# Altium footprint library LED_0402.PcbLib: 1 footprints
Each footprint in its own frame and in the unit in brackets; x right, y up, seen from the top. Pads: shape width x height; smd on the part's side, far side on the other; paste and mask are expansions set on the pad; w line width, h text height; cw(c..) or ccw(c..) is an arc to the next point about the centre after c.
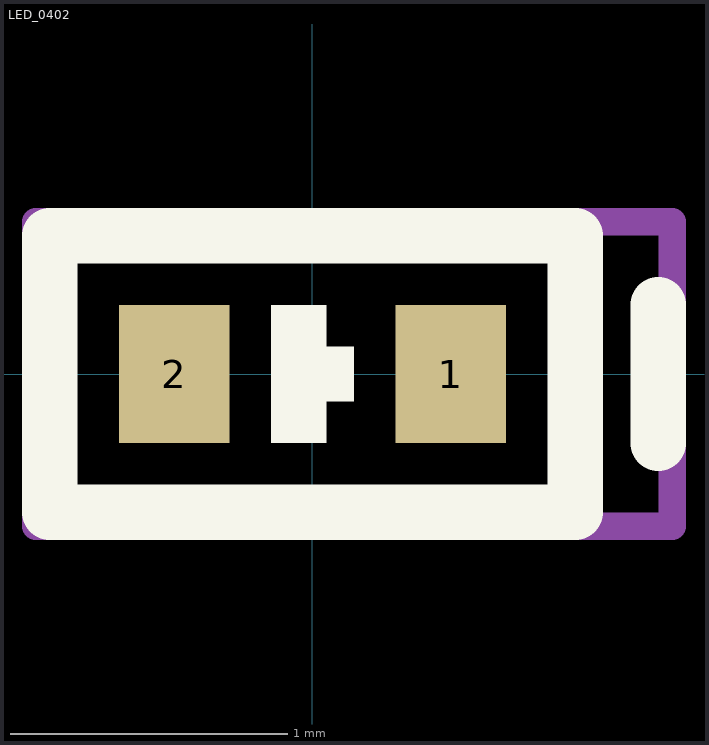
[diagram p0: the footprint, top view; thin cyan lines are the x and y axes]

## LED_0402 [mm]
pads (2):
  rect 0.4x0.5 smd: 1(0.5,0) 2(-0.5,0)
Top Overlay:
  rectangle: -0.15,-0.25 0.05,0.25
  rectangle: -0.15,-0.1 0.15,0.1
  lines w0.2: 1.25,-0.25 1.25,0.25 ; -0.95,-0.5 0.95,-0.5 0.95,0.5 -0.95,0.5 -0.95,-0.5
Top Courtyard:
  lines w0.1: -1,-0.55 -1,0.55 1.3,0.55 1.3,-0.55 -1,-0.55
3D body "LED 0402 Base RED.STEP": height 0.1, standoff 0, extent -0.5,-0.25 0.5,0.25
3D body "LED 0402 Lens RED.STEP": height 0.21, standoff 0.08, extent -0.35,-0.25 0.35,0.25